# EAGLE library part HIP2100 (library evan)
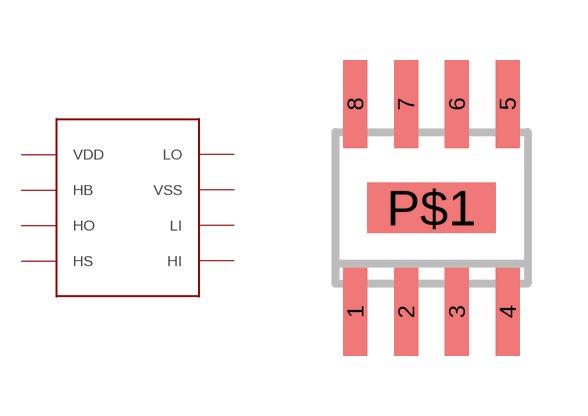
[diagram p6: symbol with the pads of EPSOIC8; footprint EPSOIC8]

Designator prefix -

## HIP2100  [EPSOIC8]
1  VDD
2  HB
3  HO
4  HS
5  HI
6  LI
7  VSS
8  LO

## Footprint EPSOIC8 (pad centres in mm)
smd 0.6 x 2.2: 1 -1.905,-2.6; 2 -0.635,-2.6; 3 0.635,-2.6; 4 1.905,-2.6; 5 1.905,2.6; 6 0.635,2.6; 7 -0.635,2.6; 8 -1.905,2.6
smd 3.2 x 1.27: P$1 0,0